# Altium schematic symbol library SN74AUC125RGYR.SchLib: 1 symbol
Pins are listed as number, name and electrical type; pins without a type are passive.

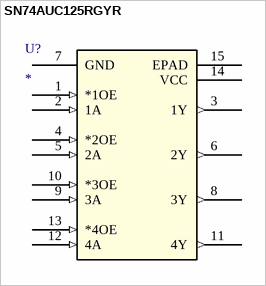
[diagram p0: symbol SN74AUC125RGYR]

## SN74AUC125RGYR
designator U?
No Description Available; Mfr_Name: Texas Instruments; RefDes: RefDes; Type: Type
footprint RGY14_2P05X2P05
pins: 1 *1OE (in), 2 1A (in), 3 1Y (out), 4 *2OE (in), 5 2A (in), 6 2Y (out), 7 GND (power), 8 3Y (out), 9 3A (in), 10 *3OE (in), 11 4Y (out), 12 4A (in), 13 *4OE (in), 14 VCC (power), 15 EPAD